# Altium footprint library Crystals.PcbLib: 3 footprints
Each footprint in its own frame and in the unit in brackets; x right, y up, seen from the top. Pads: shape width x height; smd on the part's side, far side on the other; paste and mask are expansions set on the pad; w line width, h text height; cw(c..) or ccw(c..) is an arc to the next point about the centre after c.
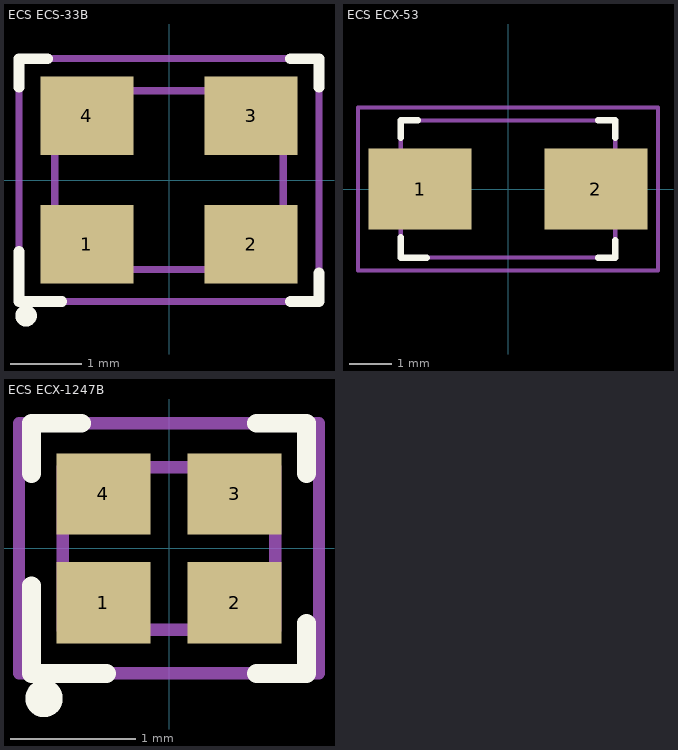
[diagram p0: the footprints below, top view; thin cyan lines are the x and y axes]

## ECS ECS-33B [mm] "SMD Crystal 3.2 x 2.5mm"
height 0.8
pads (4):
  rect 1.3x1.1 smd: 1(-1.15,-0.9) 2(1.15,-0.9) 3(1.15,0.9) 4(-1.15,0.9)
Top Overlay:
  circle w0.2: c-2,-1.9 r0.05
  lines w0.15: -2.1,-1 -2.1,-1.7 -1.5,-1.7 ; -2.1,1.3 -2.1,1.7 -1.7,1.7 ; 1.7,-1.7 2.1,-1.7 2.1,-1.3 ; 1.7,1.7 2.1,1.7 2.1,1.3
Top Assembly:
  lines w0.1: -1.6,-1.25 -1.6,1.25 1.6,1.25 1.6,-1.25 -1.6,-1.25
Top Courtyard:
  lines w0.1: -2.1,-1.7 2.1,-1.7 2.1,1.7 -2.1,1.7 -2.1,-1.7
Top Designator:
  text ".Designator" at -2.999,-0.2 h0.6
3D body "ECS-160-8-33B-CTN-TR.STEP": height 0.8, standoff 0, extent -1.6,-1.25 1.6,1.25

## ECS ECX-53 [mm] "SMD Crystal 5 x 3.2mm"
height 1.1
pads (2):
  rect 2.4x1.9 smd: 1(-2.05,0) 2(2.05,0)
Top Overlay:
  lines w0.15: -2.5,-1.128 -2.5,-1.6 -1.9,-1.6 ; -2.5,1.2 -2.5,1.6 -2.1,1.6 ; 2.1,-1.6 2.5,-1.6 2.5,-1.2 ; 2.1,1.6 2.5,1.6 2.5,1.2
Top Assembly:
  lines w0.1: -2.5,-1.6 2.5,-1.6 2.5,1.6 -2.5,1.6 -2.5,-1.6
Top Courtyard:
  lines w0.1: -3.5,-1.9 3.5,-1.9 3.5,1.9 -3.5,1.9 -3.5,-1.9
Top Designator:
  text ".Designator" at -4.998,-0.333 h1
3D body "ECS-80-18-30-JGN-TR.STEP": height 1.4, standoff 0, extent -2.5,-1.6 2.5,1.6

## ECS ECX-1247B [mm] "SMD Crystal 1.6 x 1.2mm"
height 0.35
pads (4):
  rect 0.75x0.65 smd: 1(-0.525,-0.435) 2(0.525,-0.435) 3(0.525,0.435) 4(-0.525,0.435)
Top Overlay:
  circle w0.2: c-1,-1.2 r0.05
  lines w0.15: -1.1,-0.3 -1.1,-1 -0.5,-1 ; -1.1,0.6 -1.1,1 -0.7,1 ; 0.7,-1 1.1,-1 1.1,-0.6 ; 0.7,1 1.1,1 1.1,0.6
Top Assembly:
  lines w0.1: -0.85,-0.65 -0.85,0.65 0.85,0.65 0.85,-0.65 -0.85,-0.65
Top Courtyard:
  lines w0.1: -1.2,-1 1.2,-1 1.2,1 -1.2,1 -1.2,-1
Top Designator:
  text ".Designator" at -2.999,-0.2 h0.6
3D body "ECS ECX-1247B.step": height 0.35, standoff 0, extent -0.85,-0.65 0.85,0.65